# EAGLE library part ADA4857-1 (library analog-devices)
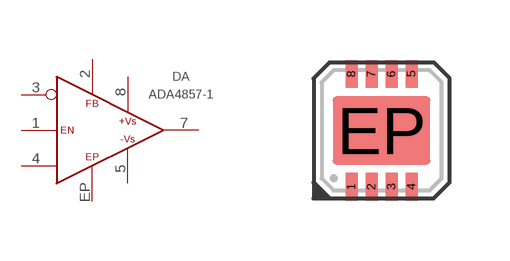
[diagram p20: symbol with the pads of LFCSP-8; footprint LFCSP-8]

Designator prefix DA

## ADA4857-1YCPZ-R2  [LFCSP-8]
1  !PD  in
2  FB  out
3  !IN  in
4  IN  in
5  VS-  pwr
7  OUT  out
8  VS+  pwr
EP  EP  pwr

## ADA4857-1YCPZ-RL  [LFCSP-8]
Pads as for LFCSP-8

## ADA4857-1YCPZ-R7  [LFCSP-8]
Pads as for LFCSP-8

## Footprint LFCSP-8 (pad centres in mm)
smd 0.3 x 0.7: 1 -0.75,-1.41; 2 -0.25,-1.41; 3 0.25,-1.41; 4 0.75,-1.41; 5 0.75,1.41; 6 0.25,1.41; 7 -0.25,1.41; 8 -0.75,1.41
smd 2.44 x 1.7: EP 0,0